# EAGLE library part 74LCX138M (library Fairchild_By_element14_Batch_1)
Low Voltage 1-of-8 Decoder/Demultiplexer
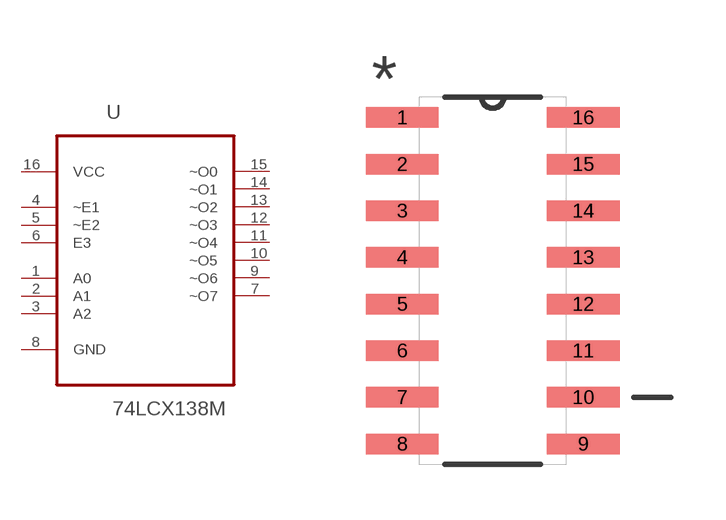
[diagram p80: symbol with the pads of SOIC127P600X175-16N; footprint SOIC127P600X175-16N]

Designator prefix U

## 74LCX138M (MPN: 74LCX138M; OC_FARNELL: 1013777; OC_NEWARK: 78K6288; PACKAGE: SOIC-16; SUPPLIER: Fairchild)  [SOIC127P600X175-16N]
1  A0  in
2  A1  in
3  A2  in
4  ~E1  in
5  ~E2  in
6  E3  in
7  ~O7  out
8  GND  pas
9  ~O6  out
10  ~O5  out
11  ~O4  out
12  ~O3  out
13  ~O2  out
14  ~O1  out
15  ~O0  out
16  VCC  pwr

## Footprint SOIC127P600X175-16N (pad centres in mm)
smd 1.981 x 0.559: 1 -2.464,4.445; 2 -2.464,3.175; 3 -2.464,1.905; 4 -2.464,0.635; 5 -2.464,-0.635; 6 -2.464,-1.905; 7 -2.464,-3.175; 8 -2.464,-4.445; 9 2.464,-4.445; 10 2.464,-3.175; 11 2.464,-1.905; 12 2.464,-0.635; 13 2.464,0.635; 14 2.464,1.905; 15 2.464,3.175; 16 2.464,4.445